# Altium footprint library con-lemo.PCBLIB: 34 footprints (part 2 of 3)
Each footprint in its own frame and in the unit in brackets; x right, y up, seen from the top. Pads: shape width x height; smd on the part's side, far side on the other; paste and mask are expansions set on the pad; w line width, h text height; cw(c..) or ccw(c..) is an arc to the next point about the centre after c.
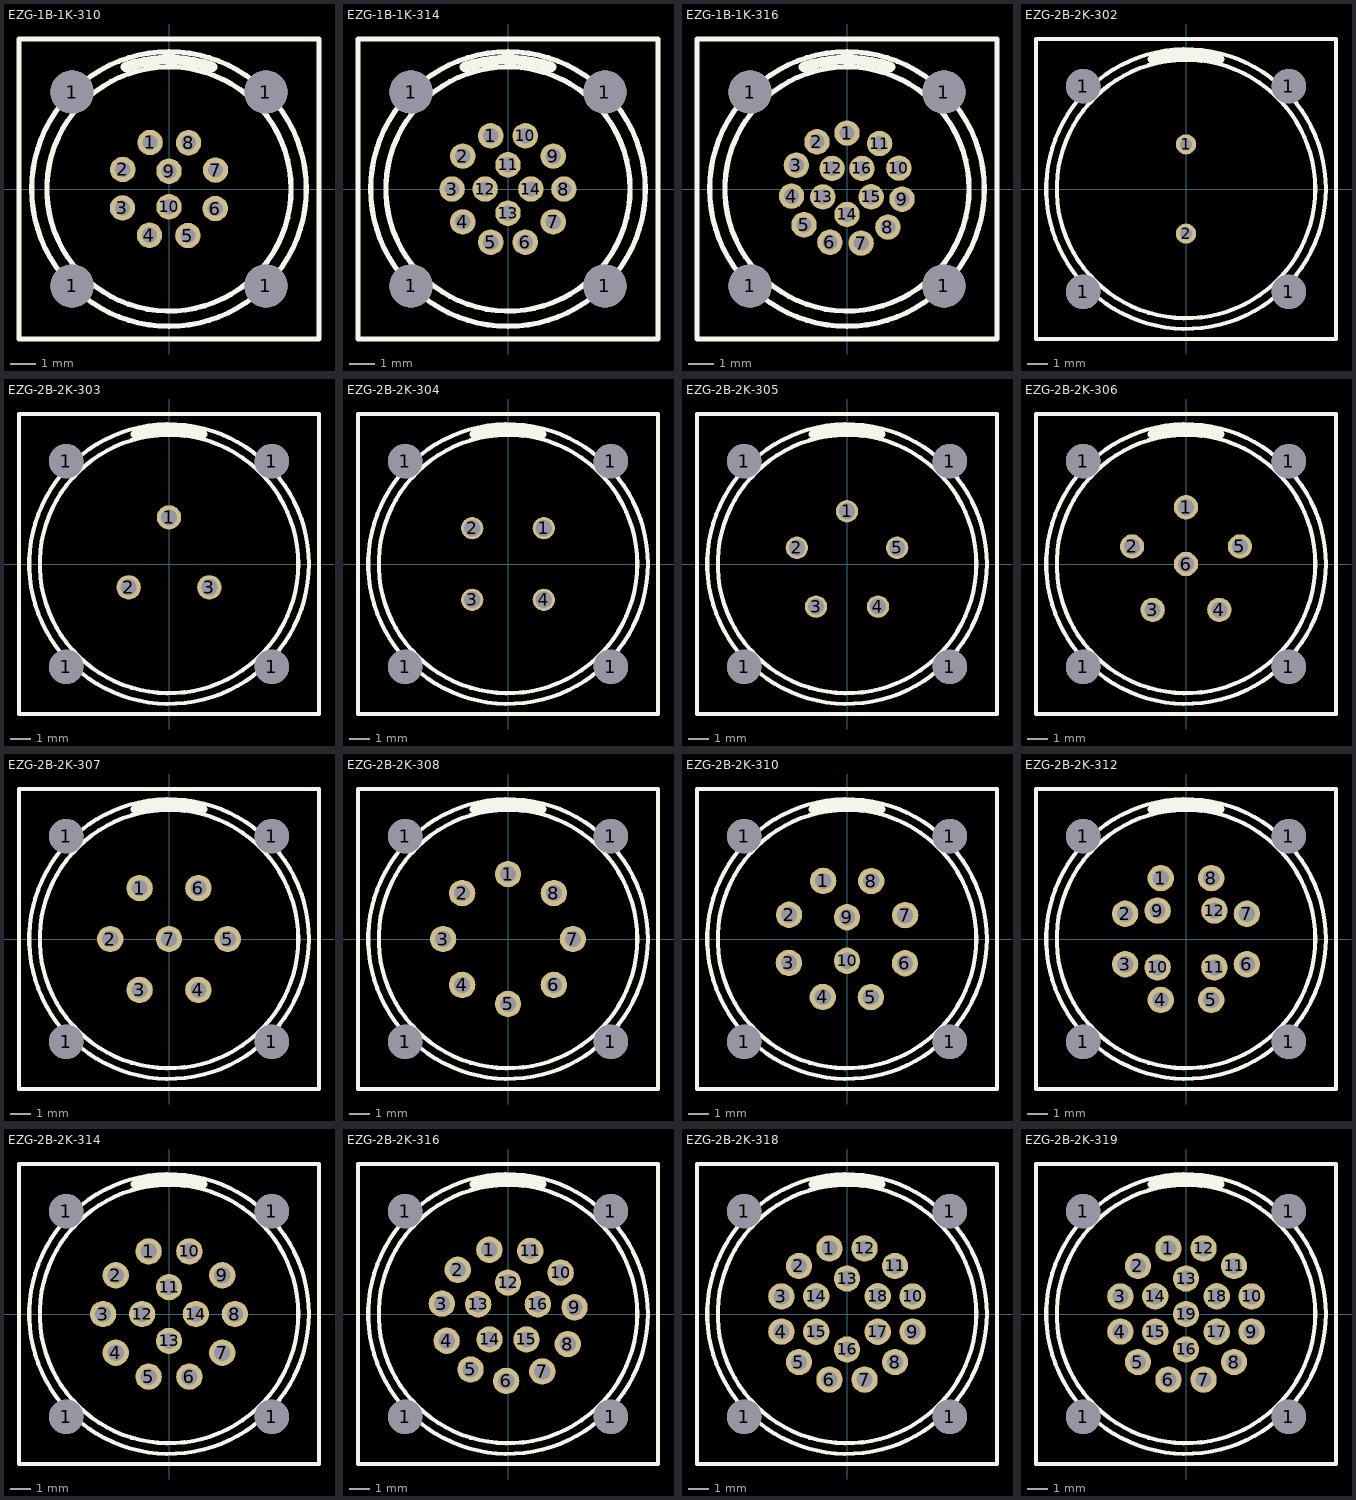
[diagram p1: the footprints below, top view; thin cyan lines are the x and y axes]

## EZG-1B-1K-310 [mm]
pads (14):
  round 1.7 hole 1.7: 1(-3.81,-3.81) 1(-3.81,3.81) 1(3.81,-3.81) 1(3.81,3.81)
  round 1 hole 0.6: 1(-0.743,1.83) 2(-1.819,0.768) 3(-1.83,-0.743) 4(-0.768,-1.819) 5(0.743,-1.83) 6(1.819,-0.768) 7(1.83,0.743) 8(0.768,1.819) 9(0,0.7) 10(0,-0.7)
Top Overlay:
  circle w0.203: c0,0 r5.4
  circle w0.203: c0,0 r4.804
  lines w0.203: -5.9,-5.9 5.9,-5.9 5.9,5.9 -5.9,5.9 -5.9,-5.9
  lines w0.4: -1.7,4.8 cw(c0,0) 1.7,4.8
Mechanical 16:
  circle w0.203: c-0.743,1.83 r0.198
  circle w0.203: c-1.819,0.768 r0.198
  circle w0.203: c-1.83,-0.743 r0.198
  circle w0.203: c-0.768,-1.819 r0.198
  circle w0.203: c0.743,-1.83 r0.198
  circle w0.203: c1.819,-0.768 r0.198
  circle w0.203: c1.83,0.743 r0.198
  circle w0.203: c0.768,1.819 r0.198
  circle w0.203: c0,0.7 r0.198
  circle w0.203: c0,-0.7 r0.198

## EZG-1B-1K-314 [mm]
pads (18):
  round 1.7 hole 1.7: 1(-3.81,-3.81) 1(-3.81,3.81) 1(3.81,-3.81) 1(3.81,3.81)
  round 1 hole 0.6: 1(-0.68,2.092) 2(-1.78,1.293) 3(-2.2,0) 4(-1.78,-1.293) 5(-0.68,-2.092) 6(0.68,-2.092) 7(1.78,-1.293) 8(2.2,0) 9(1.78,1.293) 10(0.68,2.092) 11(0,0.95) 12(-0.9,0) 13(0,-0.95) 14(0.9,0)
Top Overlay:
  circle w0.203: c0,0 r5.4
  circle w0.203: c0,0 r4.804
  lines w0.203: -5.9,-5.9 5.9,-5.9 5.9,5.9 -5.9,5.9 -5.9,-5.9
  lines w0.4: -1.7,4.8 cw(c0,0) 1.7,4.8
Mechanical 16:
  circle w0.203: c-0.68,2.092 r0.198
  circle w0.203: c-1.78,1.293 r0.198
  circle w0.203: c-2.2,0 r0.198
  circle w0.203: c-1.78,-1.293 r0.198
  circle w0.203: c-0.68,-2.092 r0.198
  circle w0.203: c0.68,-2.092 r0.198
  circle w0.203: c1.78,-1.293 r0.198
  circle w0.203: c2.2,0 r0.198
  circle w0.203: c1.78,1.293 r0.198
  circle w0.203: c0.68,2.092 r0.198
  circle w0.203: c0,0.95 r0.198
  circle w0.203: c-0.9,0 r0.198
  circle w0.203: c0,-0.95 r0.198
  circle w0.203: c0.9,0 r0.198

## EZG-1B-1K-316 [mm]
pads (20):
  round 1.7 hole 1.7: 1(-3.81,-3.81) 1(-3.81,3.81) 1(3.81,-3.81) 1(3.81,3.81)
  round 1 hole 0.6: 1(0,2.2) 2(-1.18,1.857) 3(-1.992,0.934) 4(-2.182,-0.28) 5(-1.691,-1.407) 6(-0.673,-2.095) 7(0.556,-2.129) 8(1.611,-1.498) 9(2.163,-0.4) 10(2.04,0.823) 11(1.281,1.789) 12(-0.588,0.809) 13(-0.951,-0.309) 14(0,-1) 15(0.951,-0.309) 16(0.588,0.809)
Top Overlay:
  circle w0.203: c0,0 r5.4
  circle w0.203: c0,0 r4.804
  lines w0.203: -5.9,-5.9 5.9,-5.9 5.9,5.9 -5.9,5.9 -5.9,-5.9
  lines w0.4: -1.7,4.8 cw(c0,0) 1.7,4.8
Mechanical 16:
  circle w0.203: c0,2.2 r0.198
  circle w0.203: c-1.18,1.857 r0.198
  circle w0.203: c-1.992,0.934 r0.198
  circle w0.203: c-2.182,-0.28 r0.198
  circle w0.203: c-1.691,-1.407 r0.198
  circle w0.203: c-0.673,-2.095 r0.198
  circle w0.203: c0.556,-2.129 r0.198
  circle w0.203: c1.611,-1.498 r0.198
  circle w0.203: c2.163,-0.4 r0.198
  circle w0.203: c2.04,0.823 r0.198
  circle w0.203: c1.281,1.789 r0.198
  circle w0.203: c-0.588,0.809 r0.198
  circle w0.203: c-0.951,-0.309 r0.198
  circle w0.203: c0,-1 r0.198
  circle w0.203: c0.951,-0.309 r0.198
  circle w0.203: c0.588,0.809 r0.198

## EZG-2B-2K-302 [mm]
pads (6):
  round 1.7 hole 1.7: 1(-5.08,-5.08) 1(-5.08,5.08) 1(5.08,-5.08) 1(5.08,5.08)
  round 1 hole 0.6: 1(0,2.2) 2(0,-2.2)
Top Overlay:
  circle w0.203: c0,0 r6.9
  circle w0.203: c0,0 r6.376
  lines w0.203: -7.4,-7.4 7.4,-7.4 7.4,7.4 -7.4,7.4 -7.4,-7.4
  lines w0.4: -1.7,6.4 cw(c0,0.756) 1.7,6.4
Mechanical 16:
  circle w0.203: c0,2.2 r0.198
  circle w0.203: c0,-2.2 r0.198

## EZG-2B-2K-303 [mil]
pads (7):
  round 66.93 hole 66.93: 1(-200,-200) 1(-200,200) 1(200,-200) 1(200,200)
  round 47.24 hole 31.5: 1(0,90.55) 2(-78.42,-45.28) 3(78.42,-45.28)
Top Overlay:
  circle w8: c0,0 r271.65
  circle w8: c0,0 r251.01
  lines w8: -291.34,-291.34 291.34,-291.34 291.34,291.34 -291.34,291.34 -291.34,-291.34
  lines w15.75: -66.93,251.97 cw(c0,29.77) 66.93,251.97
Mechanical 16:
  circle w8: c0,90.55 r11.75
  circle w8: c-78.42,-45.28 r11.75
  circle w8: c78.42,-45.28 r11.75

## EZG-2B-2K-304 [mil]
pads (8):
  round 66.93 hole 66.93: 1(-200,-200) 1(-200,200) 1(200,-200) 1(200,200)
  round 43.31 hole 31.5: 1(69.6,69.6) 2(-69.6,69.6) 3(-69.6,-69.6) 4(69.6,-69.6)
Top Overlay:
  circle w8: c0,0 r271.65
  circle w8: c0,0 r251.01
  lines w8: -291.34,-291.34 291.34,-291.34 291.34,291.34 -291.34,291.34 -291.34,-291.34
  lines w15.75: -66.93,251.97 cw(c0,29.77) 66.93,251.97
Mechanical 16:
  circle w8: c69.6,69.6 r11.75
  circle w8: c-69.6,69.6 r11.75
  circle w8: c-69.6,-69.6 r11.75
  circle w8: c69.6,-69.6 r11.75

## EZG-2B-2K-305 [mil]
pads (9):
  round 66.93 hole 66.93: 1(-200,-200) 1(-200,200) 1(200,-200) 1(200,200)
  round 43.31 hole 31.5: 1(0,102.36) 2(-97.35,31.63) 3(-60.17,-82.81) 4(60.17,-82.81) 5(97.35,31.63)
Top Overlay:
  circle w8: c0,0 r271.65
  circle w8: c0,0 r251.01
  lines w8: -291.34,-291.34 291.34,-291.34 291.34,291.34 -291.34,291.34 -291.34,-291.34
  lines w15.75: -66.93,251.97 cw(c0,29.77) 66.93,251.97
Mechanical 16:
  circle w8: c0,102.36 r11.75
  circle w8: c-97.35,31.63 r11.75
  circle w8: c-60.17,-82.81 r11.75
  circle w8: c60.17,-82.81 r11.75
  circle w8: c97.35,31.63 r11.75

## EZG-2B-2K-306 [mil]
pads (10):
  round 66.93 hole 66.93: 1(-200,-200) 1(-200,200) 1(200,-200) 1(200,200)
  round 47.24 hole 31.5: 1(0,110.24) 2(-104.84,34.06) 3(-64.8,-89.18) 4(64.8,-89.18) 5(104.84,34.06) 6(0,0)
Top Overlay:
  circle w8: c0,0 r271.65
  circle w8: c0,0 r251.01
  lines w8: -291.34,-291.34 291.34,-291.34 291.34,291.34 -291.34,291.34 -291.34,-291.34
  lines w15.75: -66.93,251.97 cw(c0,29.77) 66.93,251.97
Mechanical 16:
  circle w8: c0,110.24 r11.75
  circle w8: c-104.84,34.06 r11.75
  circle w8: c-64.8,-89.18 r11.75
  circle w8: c64.8,-89.18 r11.75
  circle w8: c104.84,34.06 r11.75
  circle w8: c0,0 r11.75

## EZG-2B-2K-307 [mil]
pads (11):
  round 66.93 hole 66.93: 1(-200,-200) 1(-200,200) 1(200,-200) 1(200,200)
  round 51.18 hole 31.5: 1(-57.08,98.87) 2(-114.17,0) 3(-57.09,-98.87) 4(57.08,-98.87) 5(114.17,0) 6(57.09,98.87) 7(0,0)
Top Overlay:
  circle w8: c0,0 r271.65
  circle w8: c0,0 r251.01
  lines w8: -291.34,-291.34 291.34,-291.34 291.34,291.34 -291.34,291.34 -291.34,-291.34
  lines w15.75: -66.93,251.97 cw(c0,29.77) 66.93,251.97
Mechanical 16:
  circle w8: c-57.08,98.87 r11.75
  circle w8: c-114.17,0 r11.75
  circle w8: c-57.09,-98.87 r11.75
  circle w8: c57.08,-98.87 r11.75
  circle w8: c114.17,0 r11.75
  circle w8: c57.09,98.87 r11.75
  circle w8: c0,0 r11.75

## EZG-2B-2K-308 [mil]
pads (12):
  round 66.93 hole 66.93: 1(-200,-200) 1(-200,200) 1(200,-200) 1(200,200)
  round 51.18 hole 31.5: 1(0,125.98) 2(-89.08,89.08) 3(-125.98,0) 4(-89.08,-89.08) 5(0,-125.98) 6(89.08,-89.08) 7(125.98,0) 8(89.08,89.08)
Top Overlay:
  circle w8: c0,0 r271.65
  circle w8: c0,0 r251.01
  lines w8: -291.34,-291.34 291.34,-291.34 291.34,291.34 -291.34,291.34 -291.34,-291.34
  lines w15.75: -66.93,251.97 cw(c0,29.77) 66.93,251.97
Mechanical 16:
  circle w8: c0,125.98 r11.75
  circle w8: c-89.08,89.08 r11.75
  circle w8: c-125.98,0 r11.75
  circle w8: c-89.08,-89.08 r11.75
  circle w8: c0,-125.98 r11.75
  circle w8: c89.08,-89.08 r11.75
  circle w8: c125.98,0 r11.75
  circle w8: c89.08,89.08 r11.75

## EZG-2B-2K-310 [mil]
pads (14):
  round 66.93 hole 66.93: 1(-200,-200) 1(-200,200) 1(200,-200) 1(200,200)
  round 51.18 hole 31.5: 1(-46.31,112.92) 2(-112.59,47.09) 3(-112.92,-46.31) 4(-47.09,-112.59) 5(46.31,-112.92) 6(112.59,-47.09) 7(112.92,46.31) 8(47.09,112.59) 9(0,42.32) 10(0,-42.32)
Top Overlay:
  circle w8: c0,0 r271.65
  circle w8: c0,0 r251.01
  lines w8: -291.34,-291.34 291.34,-291.34 291.34,291.34 -291.34,291.34 -291.34,-291.34
  lines w15.75: -66.93,251.97 cw(c0,29.77) 66.93,251.97
Mechanical 16:
  circle w8: c-46.31,112.92 r11.75
  circle w8: c-112.59,47.09 r11.75
  circle w8: c-112.92,-46.31 r11.75
  circle w8: c-47.09,-112.59 r11.75
  circle w8: c46.31,-112.92 r11.75
  circle w8: c112.59,-47.09 r11.75
  circle w8: c112.92,46.31 r11.75
  circle w8: c47.09,112.59 r11.75
  circle w8: c0,42.32 r11.75
  circle w8: c0,-42.32 r11.75

## EZG-2B-2K-312 [mil]
pads (16):
  round 66.93 hole 66.93: 1(-200,-200) 1(-200,200) 1(200,-200) 1(200,200)
  round 51.18 hole 31.5: 1(-48.96,118.2) 2(-118.21,48.96) 3(-118.2,-48.96) 4(-48.96,-118.21) 5(48.96,-118.2) 6(118.21,-48.96) 7(118.2,48.96) 8(48.96,118.21) 9(-55.12,55.12) 10(-55.12,-55.12) 11(55.12,-55.12) 12(55.12,55.12)
Top Overlay:
  circle w8: c0,0 r271.65
  circle w8: c0,0 r251.01
  lines w8: -291.34,-291.34 291.34,-291.34 291.34,291.34 -291.34,291.34 -291.34,-291.34
  lines w15.75: -66.93,251.97 cw(c0,29.77) 66.93,251.97
Mechanical 16:
  circle w8: c-48.96,118.2 r11.75
  circle w8: c-118.21,48.96 r11.75
  circle w8: c-118.2,-48.96 r11.75
  circle w8: c-48.96,-118.21 r11.75
  circle w8: c48.96,-118.2 r11.75
  circle w8: c118.21,-48.96 r11.75
  circle w8: c118.2,48.96 r11.75
  circle w8: c48.96,118.21 r11.75
  circle w8: c-55.12,55.12 r11.75
  circle w8: c-55.12,-55.12 r11.75
  circle w8: c55.12,-55.12 r11.75
  circle w8: c55.12,55.12 r11.75

## EZG-2B-2K-314 [mil]
pads (18):
  round 66.93 hole 66.93: 1(-200,-200) 1(-200,200) 1(200,-200) 1(200,200)
  round 51.18 hole 31.5: 1(-39.54,121.69) 2(-103.52,75.2) 3(-127.95,0) 4(-103.51,-75.2) 5(-39.54,-121.69) 6(39.54,-121.69) 7(103.52,-75.2) 8(127.95,0) 9(103.51,75.2) 10(39.54,121.69) 11(0,52.17) 12(-52.17,0) 13(0,-52.17) 14(52.17,0)
Top Overlay:
  circle w8: c0,0 r271.65
  circle w8: c0,0 r251.01
  lines w8: -291.34,-291.34 291.34,-291.34 291.34,291.34 -291.34,291.34 -291.34,-291.34
  lines w15.75: -66.93,251.97 cw(c0,29.77) 66.93,251.97
Mechanical 16:
  circle w8: c-39.54,121.69 r11.75
  circle w8: c-103.52,75.2 r11.75
  circle w8: c-127.95,0 r11.75
  circle w8: c-103.51,-75.2 r11.75
  circle w8: c-39.54,-121.69 r11.75
  circle w8: c39.54,-121.69 r11.75
  circle w8: c103.52,-75.2 r11.75
  circle w8: c127.95,0 r11.75
  circle w8: c103.51,75.2 r11.75
  circle w8: c39.54,121.69 r11.75
  circle w8: c0,52.17 r11.75
  circle w8: c-52.17,0 r11.75
  circle w8: c0,-52.17 r11.75
  circle w8: c52.17,0 r11.75

## EZG-2B-2K-316 [mil]
pads (20):
  round 66.93 hole 66.93: 1(-200,-200) 1(-200,200) 1(200,-200) 1(200,200)
  round 51.18 hole 31.5: 1(-36.29,124.75) 2(-97.55,85.82) 3(-128.36,20.1) 4(-119.11,-51.89) 5(-72.69,-107.69) 6(-3.58,-129.87) 7(66.64,-111.53) 8(116.07,-58.38) 9(129.27,12.99) 10(102.13,80.31) 11(43.11,122.56) 12(0,61.02) 13(-58.04,18.86) 14(-35.87,-49.37) 15(35.87,-49.37) 16(58.04,18.86)
Top Overlay:
  circle w8: c0,0 r271.65
  circle w8: c0,0 r251.01
  lines w8: -291.34,-291.34 291.34,-291.34 291.34,291.34 -291.34,291.34 -291.34,-291.34
  lines w15.75: -66.93,251.97 cw(c0,29.77) 66.93,251.97
Mechanical 16:
  circle w8: c-36.29,124.75 r11.75
  circle w8: c-97.55,85.82 r11.75
  circle w8: c-128.36,20.1 r11.75
  circle w8: c-119.11,-51.89 r11.75
  circle w8: c-72.69,-107.69 r11.75
  circle w8: c-3.58,-129.87 r11.75
  circle w8: c66.64,-111.53 r11.75
  circle w8: c116.07,-58.38 r11.75
  circle w8: c129.27,12.99 r11.75
  circle w8: c102.13,80.31 r11.75
  circle w8: c43.11,122.56 r11.75
  circle w8: c0,61.02 r11.75
  circle w8: c-58.04,18.86 r11.75
  circle w8: c-35.87,-49.37 r11.75
  circle w8: c35.87,-49.37 r11.75
  circle w8: c58.04,18.86 r11.75

## EZG-2B-2K-318 [mil]
pads (22):
  round 66.93 hole 66.93: 1(-200,-200) 1(-200,200) 1(200,-200) 1(200,200)
  round 51.18 hole 31.5: 1(-34.13,127.4) 2(-93.26,93.26) 3(-127.4,34.13) 4(-127.4,-34.13) 5(-93.26,-93.26) 6(-34.13,-127.4) 7(34.13,-127.4) 8(93.26,-93.26) 9(127.4,-34.13) 10(127.4,34.13) 11(93.26,93.26) 12(34.13,127.4) 13(0,68.9) 14(-59.67,34.45) 15(-59.67,-34.45) 16(0,-68.9) 17(59.67,-34.45) 18(59.67,34.45)
Top Overlay:
  circle w8: c0,0 r271.65
  circle w8: c0,0 r251.01
  lines w8: -291.34,-291.34 291.34,-291.34 291.34,291.34 -291.34,291.34 -291.34,-291.34
  lines w15.75: -66.93,251.97 cw(c0,29.77) 66.93,251.97
Mechanical 16:
  circle w8: c-34.13,127.4 r11.75
  circle w8: c-93.26,93.26 r11.75
  circle w8: c-127.4,34.13 r11.75
  circle w8: c-127.4,-34.13 r11.75
  circle w8: c-93.26,-93.26 r11.75
  circle w8: c-34.13,-127.4 r11.75
  circle w8: c34.13,-127.4 r11.75
  circle w8: c93.26,-93.26 r11.75
  circle w8: c127.4,-34.13 r11.75
  circle w8: c127.4,34.13 r11.75
  circle w8: c93.26,93.26 r11.75
  circle w8: c34.13,127.4 r11.75
  circle w8: c0,68.9 r11.75
  circle w8: c-59.67,34.45 r11.75
  circle w8: c-59.67,-34.45 r11.75
  circle w8: c0,-68.9 r11.75
  circle w8: c59.67,-34.45 r11.75
  circle w8: c59.67,34.45 r11.75

## EZG-2B-2K-319 [mil]
pads (23):
  round 66.93 hole 66.93: 1(-200,-200) 1(-200,200) 1(200,-200) 1(200,200)
  round 51.18 hole 31.5: 1(-34.13,127.4) 2(-93.26,93.26) 3(-127.4,34.13) 4(-127.4,-34.13) 5(-93.26,-93.26) 6(-34.13,-127.4) 7(34.13,-127.4) 8(93.26,-93.26) 9(127.4,-34.13) 10(127.4,34.13) 11(93.26,93.26) 12(34.13,127.4) 13(0,68.9) 14(-59.67,34.45) 15(-59.67,-34.45) 16(0,-68.9) 17(59.67,-34.45) 18(59.67,34.45) 19(0,0)
Top Overlay:
  circle w8: c0,0 r271.65
  circle w8: c0,0 r251.01
  lines w8: -291.34,-291.34 291.34,-291.34 291.34,291.34 -291.34,291.34 -291.34,-291.34
  lines w15.75: -66.93,251.97 cw(c0,29.77) 66.93,251.97
Mechanical 16:
  circle w8: c-34.13,127.4 r11.75
  circle w8: c-93.26,93.26 r11.75
  circle w8: c-127.4,34.13 r11.75
  circle w8: c-127.4,-34.13 r11.75
  circle w8: c-93.26,-93.26 r11.75
  circle w8: c-34.13,-127.4 r11.75
  circle w8: c34.13,-127.4 r11.75
  circle w8: c93.26,-93.26 r11.75
  circle w8: c127.4,-34.13 r11.75
  circle w8: c127.4,34.13 r11.75
  circle w8: c93.26,93.26 r11.75
  circle w8: c34.13,127.4 r11.75
  circle w8: c0,68.9 r11.75
  circle w8: c-59.67,34.45 r11.75
  circle w8: c-59.67,-34.45 r11.75
  circle w8: c0,-68.9 r11.75
  circle w8: c59.67,-34.45 r11.75
  circle w8: c59.67,34.45 r11.75
  circle w8: c0,0 r11.75